# EAGLE library part MTX120G-12?* (library con-Molex-36783)
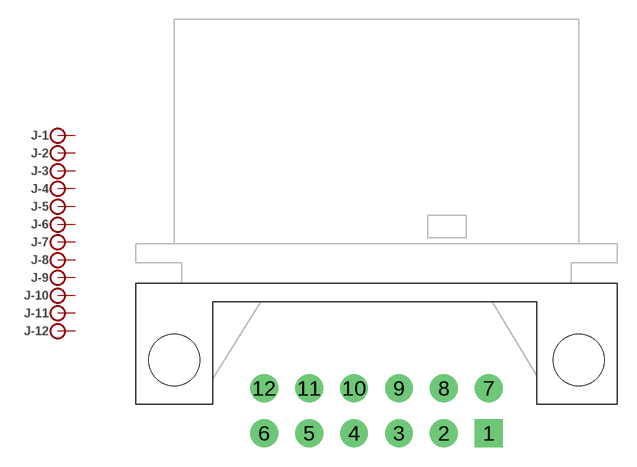
[diagram p0: symbol with the pads of 36783-12; footprint 36783-12]

Designator prefix J; gates -1=PIN -2=PIN -3=PIN -4=PIN -5=PIN -6=PIN -7=PIN -8=PIN -9=PIN -10=PIN -11=PIN -12=PIN

## MTX120G-12_36783-1201 (MF: Molex; MPN: 367831201), MTX120G-12_36783-1202 (MARK: BROWN; MF: Molex; MPN: 367831202), MTX120G-12_36783-1203 (MARK: RED; MF: Molex; MPN: 367831203), MTX120G-12_36783-1204 (MARK: GREEN; MF: Molex; MPN: 367831204), MTX120G-12_36783-1205 (MARK: GREY; MF: Molex; MPN: 367831205), MTX120G-12_36783-1206 (MARK: BLUE; MF: Molex; MPN: 367831206), MTX120G-12_36783-1207 (MARK: YELLOW; MF: Molex; MPN: 367831207), MTX120G-12_36783-1208 (MARK: WHITE; MF: Molex; MPN: 367831208), MTX120G-12_36783-1209 (MARK: ORANGE; MF: Molex; MPN: 367831209), MTX120G-12_36783-1210 (MARK: VIOLET; MF: Molex; MPN: 367831210), MTX120G-12_36783-1211 (MARK: PINK; MF: Molex; MPN: 367831211)  [36783-12]
1  -1:P
2  -2:P
3  -3:P
4  -4:P
5  -5:P
6  -6:P
7  -7:P
8  -8:P
9  -9:P
10  -10:P
11  -11:P
12  -12:P

## Footprint 36783-12 (pad centres in mm)
drill 1.45 square: 1 8.75,-11.25
drill 1.45: 2 5.25,-11.25; 3 1.75,-11.25; 4 -1.75,-11.25; 5 -5.25,-11.25; 6 -8.75,-11.25; 7 8.75,-7.75; 8 5.25,-7.75; 9 1.75,-7.75; 10 -1.75,-7.75; 11 -5.25,-7.75; 12 -8.75,-7.75
hole 4 at 15.75,-5.55
hole 4 at -15.75,-5.55